# EAGLE library part LCD16X2-RGB (library RFD22301)
GeekAmmo LCD 16x2 RGB GMO-00056 Negative GMO-00057 Positive
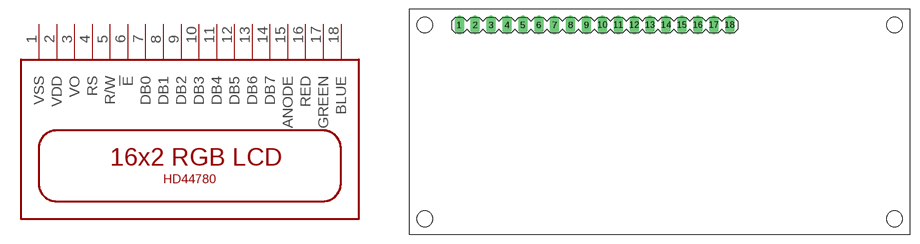
[diagram p3: symbol with the pads of LCD16X2-RGB; footprint LCD16X2-RGB]

Designator prefix -

## LCD16X2-RGB  [LCD16X2-RGB]
1  VSS
2  VDD
3  VO
4  RS
5  R/W
6  !E!
7  DB0
8  DB1
9  DB2
10  DB3
11  DB4
12  DB5
13  DB6
14  DB7
15  ANODE
16  RED
17  GREEN
18  BLUE

## Footprint LCD16X2-RGB (pad centres in mm)
GeekAmmo LCD 16x2 RGB / MONO
drill 1.016 long: 1 0,0; 2 2.54,0; 3 5.08,0; 4 7.62,0; 5 10.16,0; 6 12.7,0; 7 15.24,0; 8 17.78,0; 9 20.32,0; 10 22.86,0; 11 25.4,0; 12 27.94,0; 13 30.48,0; 14 33.02,0; 15 35.56,0; 16 38.1,0; 17 40.64,0; 18 43.18,0
hole 2.5 at -5.5,0
hole 2.5 at -5.5,-31
hole 2.5 at 69.5,0
hole 2.5 at 69.5,-31